# Altium schematic symbol library Trans_Diodes_BSS138W-7-F_eec.SchLib: 1 symbol
Pins are listed as number, name and electrical type; pins without a type are passive.

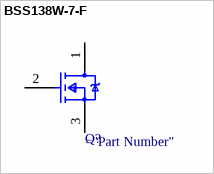
[diagram p0: symbol BSS138W-7-F]

## BSS138W-7-F
designator Q?  (value not drawn)
pins: 1 D, 2 G, 3 S